# EAGLE library part AD1954 (library analog-devices)
SigmaDSP? 3-Channel, 26-Bit Signal Processing DAC Auto generated by make-symbol-device-package-bsdl.ulp Rev. 33 Source: http://www.analog.com/static/imported-files/data_sheets/AD1954.pdf
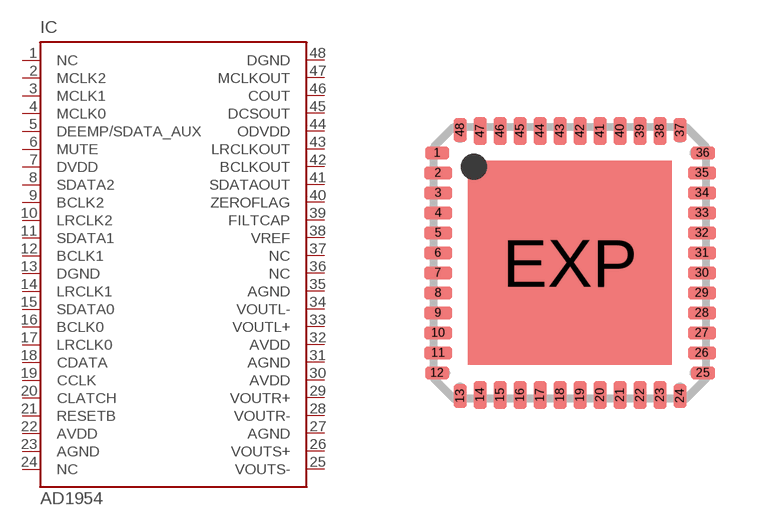
[diagram p111: symbol with the pads of LFCSP48; footprint LFCSP48]

Designator prefix IC

## AD1954 (MPN: AD1954YSTZ; OC_FARNELL: unknown; OC_NEWARK: 12M8458)  [LFCSP48]
1  NC  nc
2  MCLK2  in
3  MCLK1  in
4  MCLK0  in
5  DEEMP/SDATA_AUX  in
6  MUTE  in
7  DVDD  pwr
8  SDATA2  in
9  BCLK2  in
10  LRCLK2  in
11  SDATA1  in
12  BCLK1  in
13  DGND  pwr
14  LRCLK1  in
15  SDATA0  in
16  BCLK0  in
17  LRCLK0  in
18  CDATA  in
19  CCLK  in
20  CLATCH  in
21  RESETB  in
22  AVDD  pwr
23  AGND  pwr
24  NC  nc
25  VOUTS-  out
26  VOUTS+  out
27  AGND  pwr
28  VOUTR-  out
29  VOUTR+  out
30  AVDD  pwr
31  AGND  pwr
32  AVDD  pwr
33  VOUTL+  out
34  VOUTL-  out
35  AGND  pwr
36  NC  nc
37  NC  nc
38  VREF  in
39  FILTCAP  in
40  ZEROFLAG  out
41  SDATAOUT  out
42  BCLKOUT  out
43  LRCLKOUT  out
44  ODVDD  pwr
45  DCSOUT  out
46  COUT  out
47  MCLKOUT  out
48  DGND  pwr

## Footprint LFCSP48 (pad centres in mm)
Lead Frame Chip Scale Package LFCSP CP-48 COMPLIANT TO JEDEC STANDARDS MO-220-VKKD-2 Source: http://www.analog.com/UploadedFiles/Data_Sheets/39780344872292AD7651_0.pdf
smd 0.6 x 0.32: 1 -3.325,2.75; 12 -3.325,-2.75; 25 3.325,-2.75; 36 3.325,2.75
smd 0.7 x 0.32: 2 -3.3,2.25; 3 -3.3,1.75; 4 -3.3,1.25; 5 -3.3,0.75; 6 -3.3,0.25; 7 -3.3,-0.25; 8 -3.3,-0.75; 9 -3.3,-1.25; 10 -3.3,-1.75; 11 -3.3,-2.25; 26 3.3,-2.25; 27 3.3,-1.75; 28 3.3,-1.25; 29 3.3,-0.75; 30 3.3,-0.25; 31 3.3,0.25; 32 3.3,0.75; 33 3.3,1.25; 34 3.3,1.75; 35 3.3,2.25
smd 0.32 x 0.6: 13 -2.75,-3.325; 24 2.75,-3.325; 37 2.75,3.325; 48 -2.75,3.325
smd 0.32 x 0.7: 14 -2.25,-3.3; 15 -1.75,-3.3; 16 -1.25,-3.3; 17 -0.75,-3.3; 18 -0.25,-3.3; 19 0.25,-3.3; 20 0.75,-3.3; 21 1.25,-3.3; 22 1.75,-3.3; 23 2.25,-3.3; 38 2.25,3.3; 39 1.75,3.3; 40 1.25,3.3; 41 0.75,3.3; 42 0.25,3.3; 43 -0.25,3.3; 44 -0.75,3.3; 45 -1.25,3.3; 46 -1.75,3.3; 47 -2.25,3.3
smd 5.1 x 5.1: EXP 0,0